# Altium schematic symbol library Lib.SchLib: 3 symbols
Pins are listed as number, name and electrical type; pins without a type are passive.

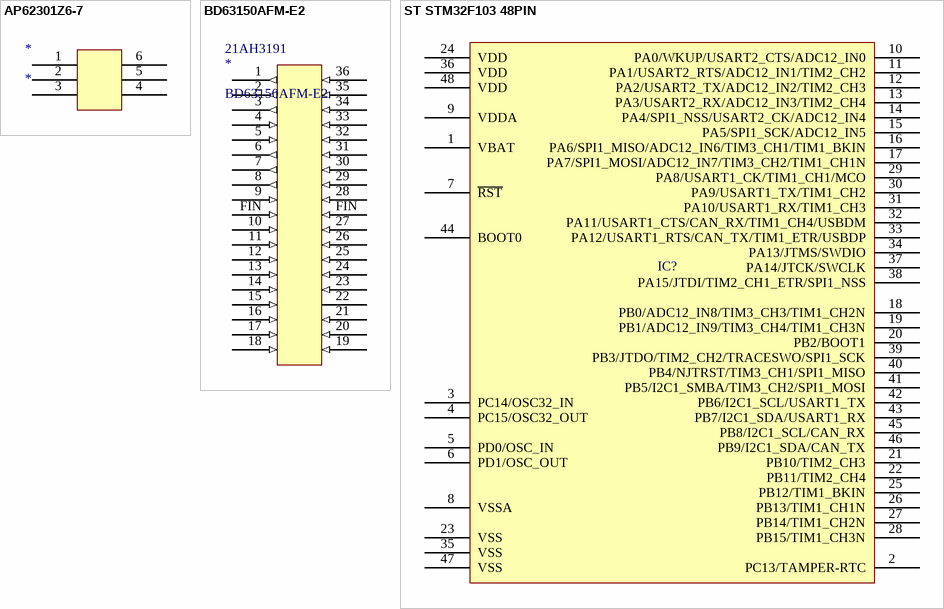
[diagram p0: symbols AP62301Z6-7 to ST STM32F103 48PIN]

## AP62301Z6-7
designator *
Switching Voltage Regulators DCDC Conv HV Buck SOT563 T&R 3K
footprint AP62301Z6-7 (Switching Voltage Regulators DCDC Conv HV Buck SOT563 T&R 3K)
footprint SOT563 (SOT23, 6-Leads, Body 1,60x1,60mm, Pitch 0,50mm, IPC Medium Density)
footprint SOT-563-6
pins: 1, 2, 3, 4, 5, 6

## BD63150AFM-E2
designator *  Supplier Part Number 1: 21AH3191
DC Driver; Supplier 1: Newark
footprint BD63150AFM-E2 (HSOP38)
footprint Rohm_HSOP-M36_MFG
pins: 1 (out), 2 (out), 3 (out), 4 (in), 5 (in), 6 (out), 7 (out), 8 (out), 9 (in), 10 (in), 11 (in), 12 (in), 13 (in), 14 (in), 15 (in), 16 (in), 17 (in), 18 (in), 19 (in), 20 (in), 21 (in), 22, 23 (in), 24 (in), 25 (in), 26 (in), 27 (in), 28 (in), 29 (in), 30 (in), 31 (in), 32 (in), 33 (in), 34 (in), 35 (in), 36 (in), FIN (in), FIN (in)

## ST STM32F103 48PIN
designator IC?
pins: 1 VBAT, 2 PC13/TAMPER-RTC, 3 PC14/OSC32_IN, 4 PC15/OSC32_OUT, 5 PD0/OSC_IN, 6 PD1/OSC_OUT, 7 ~{RST} "NRST", 8 VSSA, 9 VDDA, 10 PA0/WKUP/USART2_CTS/ADC12_IN0, 11 PA1/USART2_RTS/ADC12_IN1/TIM2_CH2, 12 PA2/USART2_TX/ADC12_IN2/TIM2_CH3, 13 PA3/USART2_RX/ADC12_IN3/TIM2_CH4, 14 PA4/SPI1_NSS/USART2_CK/ADC12_IN4, 15 PA5/SPI1_SCK/ADC12_IN5, 16 PA6/SPI1_MISO/ADC12_IN6/TIM3_CH1/TIM1_BKIN, 17 PA7/SPI1_MOSI/ADC12_IN7/TIM3_CH2/TIM1_CH1N, 18 PB0/ADC12_IN8/TIM3_CH3/TIM1_CH2N, 19 PB1/ADC12_IN9/TIM3_CH4/TIM1_CH3N, 20 PB2/BOOT1, 21 PB10/TIM2_CH3, 22 PB11/TIM2_CH4, 23 VSS, 24 VDD, 25 PB12/TIM1_BKIN, 26 PB13/TIM1_CH1N, 27 PB14/TIM1_CH2N, 28 PB15/TIM1_CH3N, 29 PA8/USART1_CK/TIM1_CH1/MCO, 30 PA9/USART1_TX/TIM1_CH2, 31 PA10/USART1_RX/TIM1_CH3, 32 PA11/USART1_CTS/CAN_RX/TIM1_CH4/USBDM, 33 PA12/USART1_RTS/CAN_TX/TIM1_ETR/USBDP, 34 PA13/JTMS/SWDIO, 35 VSS, 36 VDD, 37 PA14/JTCK/SWCLK, 38 PA15/JTDI/TIM2_CH1_ETR/SPI1_NSS, 39 PB3/JTDO/TIM2_CH2/TRACESWO/SPI1_SCK, 40 PB4/NJTRST/TIM3_CH1/SPI1_MISO, 41 PB5/I2C1_SMBA/TIM3_CH2/SPI1_MOSI, 42 PB6/I2C1_SCL/USART1_TX, 43 PB7/I2C1_SDA/USART1_RX, 44 BOOT0, 45 PB8/I2C1_SCL/CAN_RX, 46 PB9/I2C1_SDA/CAN_TX, 47 VSS, 48 VDD